# EAGLE library part 6861XX14122_68610814122 (library WR-FPC)
WR-FPC 1.00 mm SMT ZIF Horizontal Top Contact KIND PROPERTIES Pitch 1 mm MATERIAL PROPERTIES Insulator Material PPS Contact Material Phosphor Bronze Contact Plating 100 (µ") Tin over 50 (µ") Nickel Contact Type Stamped <https://www.we-online.com/catalog/media/o33098v209%20Family_WR-FPC_68610414122.jpg> Details see: https://www.we-online.com/catalog/en/FPC_1_00_SMT_ZIF_HORIZONTAL_TOP_CONTACT_6861XX14122/ Updated by Ella Wu 2020-08-26 2020(C) Wurth Elektronik
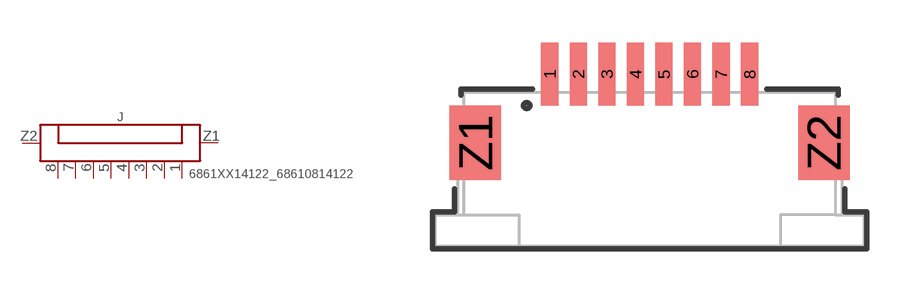
[diagram p31: symbol with the pads of 68610814122; footprint 68610814122]

Designator prefix J

## 6861XX14122_68610814122 (CONTACT-RESISTANCE: 20Ohm; DATASHEET-URL: https://www.we-online.com/catalog/datasheet/68610814122.pdf; IR: 1A; L: 15mm; MATE-WITH: WR-FFC 1.00 mm Flat Flexible Cable Type 1 (Contacts on same side)/ Type 2 (Contacts opposite); PACKAGING: Tape and Reel; PART-NUMBER: 68610814122; PINS: 8; PITCH: 1mm; TYPE: Horizontal; VALUE: 68610814122; WORKING-VOLTAGE: 125V(AC))  [68610814122]
1  1  pas
2  2  pas
3  3  pas
4  4  pas
5  5  pas
6  6  pas
7  7  pas
8  8  pas
Z1  Z1  pas
Z2  Z2  pas

## Footprint 68610814122 (pad centres in mm)
WR-FPC 1.00 mm SMT ZIF Horizontal Top Contact,8 Pins
smd 0.6 x 2.2: 1 -3.5,3.33; 2 -2.5,3.33; 3 -1.5,3.33; 4 -0.5,3.33; 5 0.5,3.33; 6 1.5,3.33; 7 2.5,3.33; 8 3.5,3.33
smd 1.8 x 2.6: Z1 -6.1,0.93; Z2 6.1,0.93